# EAGLE library part AD623 (library AD623)
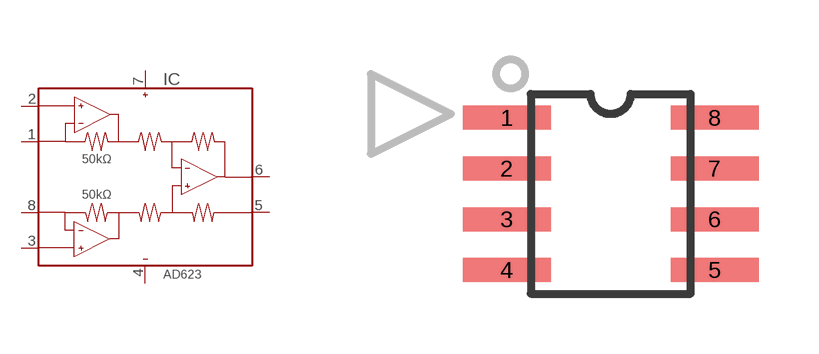
[diagram p0: symbol with the pads of SOIC8; footprint SOIC8]

Designator prefix IC

## AD623ARZ (MF: Analog; MPN: AD623ARZ)  [SOIC8]
1  RG-
2  IN-  in
3  IN+  in
4  VEE  pwr
5  REF  in
6  OUT
7  VCC  pwr
8  RG+

## Footprint SOIC8 (pad centres in mm)
smd 2.2 x 0.6: 1 -2.6,1.905; 2 -2.6,0.635; 3 -2.6,-0.635; 4 -2.6,-1.905; 5 2.6,-1.905; 6 2.6,-0.635; 7 2.6,0.635; 8 2.6,1.905